# Altium schematic symbol library EwgActive.SchLib: 65 symbols
Pins are listed as number, name and electrical type; pins without a type are passive.

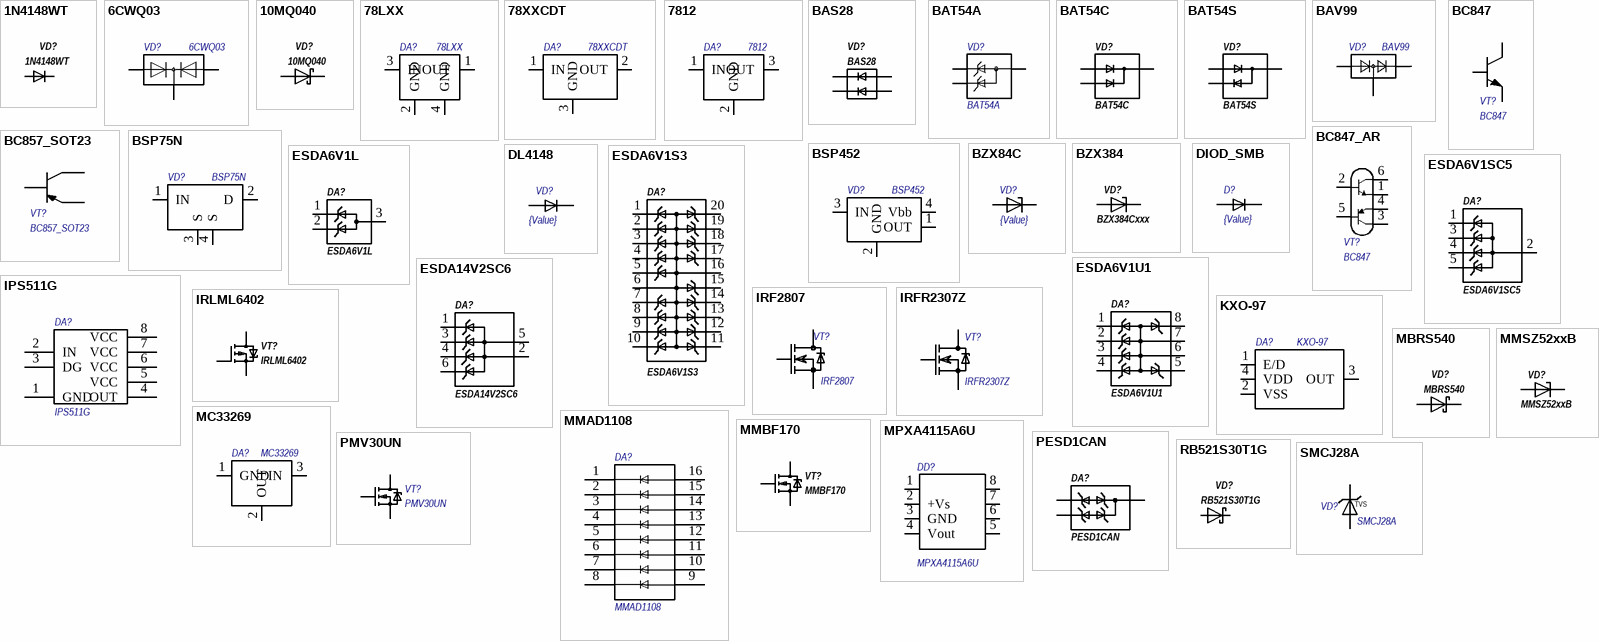
[diagram p0: symbols 1N4148WT to SMCJ28A]

## 1N4148WT
designator VD?
Диод; Производитель: Diodes Incorporated; Тип корпуса: SOD523; Тип монтажа: Поверхностный; Характеристики: 80В 250мА; Наименование: 1N4148WT; Тип компонента: Диод
footprint SOD-523F
pins: 1, 2

## 6CWQ03
designator VD?
Сборка диодная; Value: {Value}; Наименование: Vishay, VS-6CWQ03FNTR; Тип корпуса: D-PAK; Тип монтажа: Поверхностный; Номинал: {Value}; Тип компонента: Сборка диодная
footprint D-PAK
pins: 1, 2, 3

## 10MQ040
designator VD?
Диод Шоттки; Производитель: WTE; Тип корпуса: SMA; Тип монтажа: Поверхностный; Характеристики: 40В 1А; Тип компонента: Диод Шоттки; Наименование: 10MQ040
footprint SMA
pins: 1, 2

## 78LXX
designator DA?
Стабилизатор напряжения; Value: {Value}; Тип корпуса: SOT89; Тип монтажа: Поверхностный; Номинал: {Value}; Тип компонента: Стабилизатор напряжения
footprint SOT89
pins: 1 OUT, 2 GND, 3 IN, 4 GND

## 78XXCDT
designator DA?
Стабилизатор напряжения; Value: {Value}; Наименование: ST Microelectronics, 78xxCDT; Тип корпуса: D-PAK; Тип монтажа: Поверхностный; Номинал: {Value}; Тип компонента: Стабилизатор напряжения
footprint D-PAK
pins: 1 IN, 2 OUT, 3 GND

## 7812
designator DA?
Стабилизатор напряжения; Value: {Value}; Тип корпуса: D-PAK; Тип монтажа: Поверхностный; Номинал: {Value}; Тип компонента: Стабилизатор напряжения
footprint D-PAK
pins: 1 IN, 2 GND, 3 OUT

## BAS28
designator VD?
Сборка диодная Шоттки; Примечание: NXP; Тип корпуса: SOT143; Тип монтажа: Поверхностный; Характеристики: 75В, 500мА, 4нс; Наименование: BAS28; Тип компонента: Сборка диодная Шоттки
footprint SOT143
pins: 1, 2, 3, 4

## BAT54A
designator VD?
Сборка диодная Шоттки; Value: {Value}; Наименование: Fairchild Semiconductor, BAT54A; Тип корпуса: SOT-23; Тип монтажа: Поверхностный; Номинал: {Value}; Тип компонента: Сборка диодная Шоттки
footprint SOT23-3
pins: 1, 2, 3

## BAT54C
designator VD?
Сборка диодная Шоттки; Value: {Value}; Наименование: Fairchild Semiconductor, BAT54C; Тип корпуса: SOT-23; Тип монтажа: Поверхностный; Номинал: {Value}; Тип компонента: Сборка диодная Шоттки
footprint SOT23-3
pins: 1, 2, 3

## BAT54S
designator VD?
Сборка диодная Шоттки; Производитель: Fairchild Semiconductor; Тип корпуса: SOT-23; Тип монтажа: Поверхностный; Характеристики: 30В 200мА; Тип компонента: Сборка диодная Шоттки; Наименование: BAT54S
footprint SOT23-3
pins: 1, 2, 3

## BAV99
designator VD?
Сборка диодная; Value: {Value}; Наименование: FAIRCHILD, BAV99; Тип корпуса: SOT-23; Тип монтажа: Поверхностный; Номинал: {Value}; Тип компонента: Сборка диодная
footprint SOT23-3
pins: 1, 2, 3

## BC847
designator VT?
Транзитор биполярный; Value: {Value}; Наименование: NXP, BC847A; Тип корпуса: SOT-23; Тип монтажа: Поверхностный; Номинал: {Value}; Тип компонента: Транзитор биполярный
footprint SOT23-3
pins: 1, 2, 3

## BC847_AR
designator VT?, comment BC847
Сборка транзиторная; Value: {Value}; Наименование: ON Semiconductor, BC847BDW1T1G; Тип корпуса: SOT363; Тип монтажа: Поверхностный; Номинал: {Value}; Тип компонента: Сборка транзиторная
footprint SOT363
pins: 1, 2, 3, 4, 5, 6

## BC857_SOT23
designator VT?
Транзитор биполярный; Value: {Value}; Наименование: NXP, BC857A; Тип корпуса: SOT-23; Тип монтажа: Поверхностный; Номинал: {Value}; Тип компонента: Транзитор биполярный
footprint SOT23-3
pins: 1, 2, 3

## BSP75N
designator VD?
Электронный ключ (нижний); Value: {Value}; Наименование: Infineon Technologies, BSP75N; Тип корпуса: SOT223; Тип монтажа: Поверхностный; Номинал: {Value}; Тип компонента: Электронный ключ (нижний)
footprint SOT223
pins: 1 IN, 2 D, 3 S, 4 S

## BSP452
designator VD?
Электронный ключ (верхний); Value: {Value}; Наименование: Infineon Technologies, BSP452; Тип корпуса: SOT223; Тип монтажа: Поверхностный; Номинал: {Value}; Тип компонента: Электронный ключ (верхний)
footprint SOT223
pins: 1 OUT, 2 GND, 3 IN, 4 Vbb

## BZX84C
designator VD?  value {Value}  (hidden comment: *)
Стабилитрон; Наименование: BZX84Cxxx; Тип корпуса: SOT-23; Тип монтажа: Поверхностный; Номинал: {Value}; Тип компонента: Стабилитрон
footprint SOT23-3
pins: 1, 3

## BZX384
designator VD?, comment BZX384Cxxx
Стабилитрон; Производитель: Vishay; Тип корпуса: SOD323; Тип монтажа: Поверхностный; Характеристики: 2.4-75В 5мА; Тип компонента: Стабилитрон; Наименование: BZX384Cxxx
footprint SOD123
footprint SOD323
pins: 1, 2

## DIOD_SMB
designator D?  value {Value}  (hidden comment: *)
Диод; Тип корпуса: SMB; Тип монтажа: Поверхностный; Номинал: {Value}; Тип компонента: Диод
footprint SMB
pins: 1, 2

## DL4148
designator VD?  value {Value}  (hidden comment: *)
Диод; Наименование: DL4148; Тип корпуса: DO-35; Тип монтажа: Поверхностный; Номинал: {Value}; Тип компонента: Диод
footprint DIODE
pins: 1, 2

## ESDA6V1L
designator DA?
ESD-защита 2 кан.; Производитель: ST Microelectronics; Тип корпуса: SOT23; Тип монтажа: Поверхностный; Характеристики: 6.1В; Наименование: ESDA6V1L; Тип компонента: ESD-защита 2 кан.
footprint SOT23-3
pins: 1, 2, 3

## ESDA6V1S3
designator DA?
ESD-защита 18 кан.; Производитель: ST Microelectronics; Тип корпуса: SOIC20; Тип монтажа: Поверхностный; Характеристики: 6.1В; Наименование: ESDA6V1S3; Тип компонента: ESD-защита 18 кан.
footprint SO20-7.5
pins: 1, 2, 3, 4, 5, 6, 7, 8, 9, 10, 11, 12, 13, 14, 15, 16, 17, 18, 19, 20

## ESDA6V1SC5
designator DA?
ESD-защита 4 кан.; Производитель: ST Microelectronics; Тип корпуса: SOT23-5; Тип монтажа: Поверхностный; Характеристики: 6.1В; Наименование: ESDA6V1SC5; Тип компонента: ESD-защита 4 кан.
footprint SOT23-5
pins: 1, 2, 3, 4, 5

## ESDA6V1U1
designator DA?
ESD-защита 6 кан.; Производитель: ST Microelectronics; Тип корпуса: SO8; Тип монтажа: Поверхностный; Характеристики: 6.1В; Наименование: ESDA6V1U1; Тип компонента: ESD-защита 6 кан.
footprint SO8
pins: 1, 2, 3, 4, 5, 6, 7, 8

## ESDA14V2SC6
designator DA?
ESD-защита 4 кан.; Производитель: ST Microelectronics; Тип корпуса: SOT23-6; Тип монтажа: Поверхностный; Характеристики: 14.2В; Наименование: ESDA14V2SC6; Тип компонента: ESD-защита 4 кан.
footprint SOT23-6
pins: 1, 2, 3, 4, 5, 6

## IPS511G
designator DA?
Электронный ключ (верхний); Value: {Value}; Наименование: International Rectifier, IPS511G; Тип корпуса: SO8; Тип монтажа: Поверхностный; Номинал: {Value}; Тип компонента: Электронный ключ (верхний)
footprint SO8
pins: 1 GND, 2 IN, 3 DG, 4 OUT, 5 VCC, 6 VCC, 7 VCC, 8 VCC

## IRF2807
designator VT?
Транзистор полевой (MOSFET); Value: {Value}; Наименование: International Rectifier, IRF2807S; Тип корпуса: D2PAK; Тип монтажа: Поверхностный; Номинал: {Value}; Тип компонента: Транзистор полевой (MOSFET)
footprint D2PAK
pins: 1 0, 2 1, 3 2

## IRFR2307Z
designator VT?
Транзистор полевой (MOSFET); Value: {Value}; Наименование: International Rectifier, IRFR2307Z; Тип корпуса: D-PAK; Тип монтажа: Поверхностный; Номинал: {Value}; Тип компонента: Транзистор полевой (MOSFET)
footprint D-PAK
pins: 1, 2, 3

## IRLML6402
designator VT?
Транзистор полевой (MOSFET); Производитель: International Rectifier; Тип корпуса: SOT-23; Тип монтажа: Поверхностный; Характеристики: -20В -3.7А; Наименование: IRLML6402; Тип компонента: Транзистор полевой (MOSFET)
footprint SOT23-3
pins: 1 G, 2 S, 3 D

## KXO-97
designator DA?
Кварцевый генератор; Value: {Value}; Наименование: GEYER, KXO-97-; Тип монтажа: Поверхностный; Номинал: {Value}; Тип компонента: Кварцевый генератор; Тип корпуса: KXO-97
footprint KXO-97
pins: 1 E/D, 2 VSS, 3 OUT, 4 VDD

## MBRS540
designator VD?
Диод Шоттки; Производитель: ON Semiconductor; Тип корпуса: SMC; Тип монтажа: Поверхностный; Характеристики: 40В 5А; Наименование: MBRS540; Тип компонента: Диод Шоттки
footprint SMC
pins: 1, 2

## MC33269
designator DA?
Стабилизатор напряжения; Value: {Value}; Наименование: ON Semiconductor, MC33269DT-XXG; Тип корпуса: D-PAK; Тип монтажа: Поверхностный; Номинал: {Value}; Тип компонента: Стабилизатор напряжения
footprint D-PAK
pins: 1 GND, 2 OUT, 3 IN

## MMAD1108
designator DA?
Сборка диодная; Value: {Value}; Наименование: Protek Devices, MMAD1108; Тип корпуса: SO16; Тип монтажа: Поверхностный; Номинал: {Value}; Тип компонента: Сборка диодная
footprint SO16
pins: 1, 2, 3, 4, 5, 6, 7, 8, 9, 10, 11, 12, 13, 14, 15, 16

## MMBF170
designator VT?
Транзистор полевой (MOSFET); Производитель: Fairchild Semiconductor; Тип корпуса: SOT-23; Тип монтажа: Поверхностный; Характеристики: 60В 500мА 300мВт; Наименование: MMBF170; Тип компонента: Транзистор полевой (MOSFET)
footprint SOT23-3
pins: 1 0, 2 1, 3 2

## MMSZ52xxB
designator VD?
Стабилитрон; Тип корпуса: SOD123; Тип монтажа: Поверхностный; Характеристики: 2.4-37В 20мА; Тип компонента: Стабилитрон; Наименование: MMSZ52xxB
footprint SOD123
pins: 1, 2

## MPXA4115A6U
designator DD?
Датчик давления; Value: {Value}; Наименование: ON Semiconductor, MPXA4115A6U; Тип корпуса: CASE482; Тип монтажа: Поверхностный; Номинал: {Value}; Тип компонента: Датчик давления
footprint CASE482
pins: 1 NC, 2 +Vs, 3 GND, 4 Vout, 5 NC, 6 NC, 7 NC, 8 NC

## PESD1CAN
designator DA?
ESD-CAN защита; Производитель: Philips Semiconductors; Тип корпуса: SOT23; Тип монтажа: Поверхностный; Наименование: PESD1CAN; Тип компонента: ESD-CAN защита
footprint SOT23-3
pins: 1 K1, 2 K2, 3 K3

## PMV30UN
designator VT?
Транзистор полевой (MOSFET); Value: {Value}; Наименование: NXP, PMV30UN; Тип корпуса: SOT-23; Тип монтажа: Поверхностный; Номинал: {Value}; Тип компонента: Транзистор полевой (MOSFET)
footprint SOT23-3
pins: 1 0, 2 1, 3 2

## RB521S30T1G
designator VD?
Диод Шоттки; Производитель: ON Semiconductor; Тип корпуса: SOD523; Тип монтажа: Поверхностный; Характеристики: 30В 200мА 500мВ; Наименование: RB521S30T1G; Тип компонента: Диод Шоттки
footprint SOD-523F
pins: 1, 2

## SMCJ28A
designator VD?
Трансил; Наименование: Diotec Semiconductor, 1.5SMCJ28A; Напряжение: 28V; Примечание: Unidirection; Разброс номинала: 27V-30V; Тип корпуса: SMC; Тип монтажа: Поверхностный; Номинал: 28V; Тип компонента: Трансил; Value: SMCJ28A
footprint SMC (DO-214AB)
pins: 1, 2
text: TVS

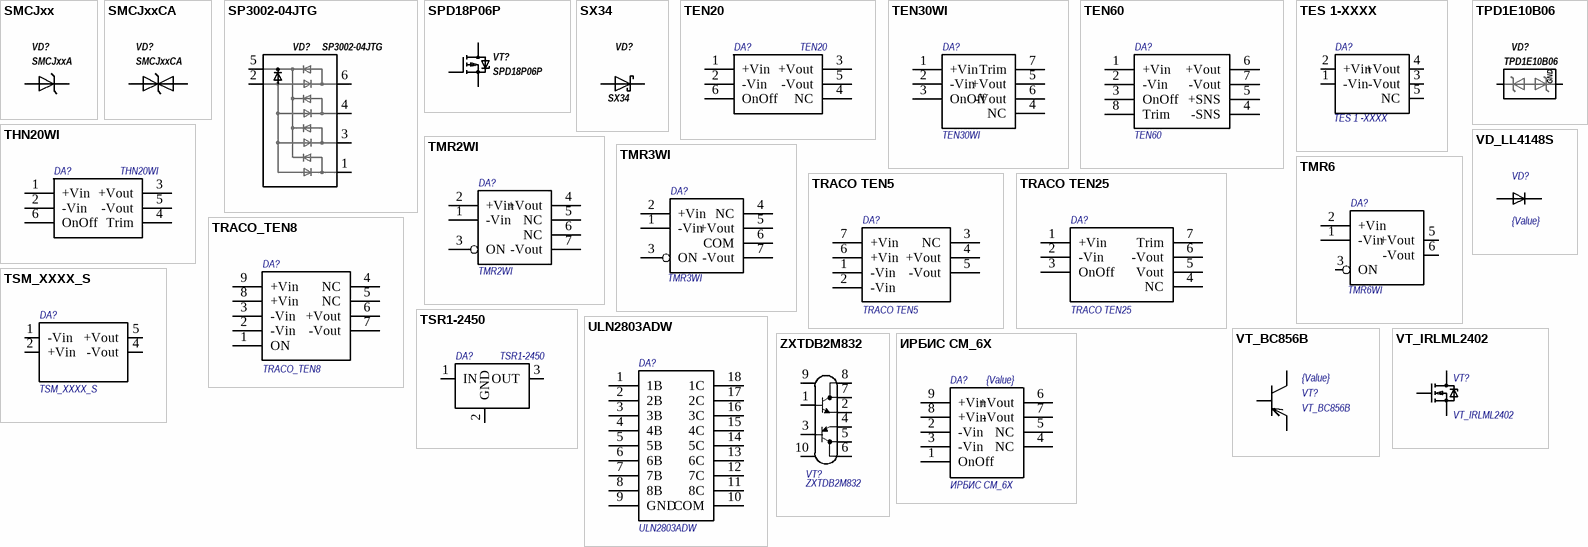
[diagram p1: symbols SMCJxx to ИРБИС СМ_6Х]

## SMCJxx
designator VD?, comment SMCJxxA
Диод TVS; Тип корпуса: SMC; Тип монтажа: Поверхностный; Характеристики: 1500 Вт; Тип компонента: Диод TVS; Наименование: SMCJxxA
footprint SMC
pins: 1, 2

## SMCJxxCA
designator VD?
Диод TVS двунаправленный; Тип корпуса: SMC; Тип монтажа: Поверхностный; Характеристики: 1500 Вт; Тип компонента: Диод TVS двунаправленный; Наименование: SMCJxxCA
footprint SMC
pins: 1, 2

## SP3002-04JTG
designator VD?
Сборка диодная Шоттки 8 шт. + ESD; Производитель: Fairchild Semiconductor; Тип корпуса: SOT323-6; Тип монтажа: Поверхностный; Характеристики: 6В 12кВ 0.85пФ; Тип компонента: Сборка диодная Шоттки 8 шт. + ESD; Наименование: SP3002-04JTG
footprint SOT323-6
pins: 1, 2, 3, 4, 5, 6

## SPD18P06P
designator VT?
Транзистор полевой (MOSFET); Производитель: International Rectifier; Тип корпуса: TO-252; Тип монтажа: Поверхностный; Характеристики: -60В -18.6А; Наименование: SPD18P06P; Тип компонента: Транзистор полевой (MOSFET)
footprint D-PAK
footprint D-PAK_P
pins: 1 G, 2 S, 3 D

## SX34
designator VD?
Диод Шоттки; Производитель: WTE; Тип корпуса: SMA; Тип монтажа: Поверхностный; Характеристики: 28В 3А; Тип компонента: Диод Шоттки; Наименование: SX34
footprint SMA
pins: 1, 2

## TEN20
designator DA?
DC-DC преобразователь; Наименование: Traco Power; Тип монтажа: Штыревой; Тип компонента: DC-DC преобразователь; Value: TEN20
footprint TEN20
pins: 1 +Vin, 2 -Vin, 3 +Vout, 4 NC, 5 -Vout, 6 OnOff

## TEN30WI
designator DA?
DC-DC преобразователь; Наименование: Traco Power; Тип монтажа: Штыревой; Тип компонента: DC-DC преобразователь; Value: TEN30WI
footprint TEN30WI
pins: 1 +Vin, 2 -Vin, 3 OnOff, 4 NC, 5 +Vout, 6 -Vout, 7 Trim

## TEN60
designator DA?
DC-DC преобразователь; Наименование: Traco Power; Тип монтажа: Штыревой; Тип компонента: DC-DC преобразователь; Value: TEN60
footprint TEN60
pins: 1 +Vin, 2 -Vin, 3 OnOff, 4 -SNS, 5 +SNS, 6 +Vout, 7 -Vout, 8 Trim

## TES 1-XXXX
designator DA?, comment TES 1 -XXXX
DC-DC преобразователь; Наименование: Traco Power; Тип монтажа: Поверхностный; Value: {Value}; Тип компонента: DC-DC преобразователь
footprint TES 1-XXXX
pins: 1 -Vin, 2 +Vin, 3 -Vout, 4 +Vout, 5 NC

## THN20WI
designator DA?
DC-DC преобразователь; Наименование: Traco Power; Тип монтажа: Штыревой; Тип компонента: DC-DC преобразователь; Value: THN20WI
footprint THN20WI
pins: 1 +Vin, 2 -Vin, 3 +Vout, 4 Trim, 5 -Vout, 6 OnOff

## TMR2WI
designator DA?
DC-DC преобразователь; Наименование: Traco Power; Номинал: 2W; Тип монтажа: Штыревой; Тип компонента: DC-DC преобразователь; Value: TMR2WI
footprint TMR2
pins: 1 -Vin, 2 +Vin, 3 ON, 4 +Vout, 5 NC, 6 NC, 7 -Vout

## TMR3WI
designator DA?
DC-DC преобразователь; Наименование: Traco Power; Тип монтажа: Штыревой; Тип компонента: DC-DC преобразователь; Value: TMR3WI
footprint TMR3
pins: 1 -Vin, 2 +Vin, 3 ON, 4 NC, 5 +Vout, 6 COM, 7 -Vout

## TMR6
designator DA?, comment TMR6WI
DC-DC преобразователь; Наименование: Traco Power; Тип монтажа: Штыревой; Тип компонента: DC-DC преобразователь; Value: TMR6WI
footprint TMR3
pins: 1 -Vin, 2 +Vin, 3 ON, 4 NC hidden, 5 +Vout, 6 -Vout, 7 NC hidden

## TPD1E10B06
designator VD?
ESD-защита; Производитель: Texas Instruments; Тип корпуса: 0402; Тип монтажа: Поверхностный; Характеристики: 30кВ 6В; Наименование: TPD1E10B06; Тип компонента: ESD-защита
footprint X1SON
pins: 1, 2
text: GND

## TRACO TEN5
designator DA?
DC-DC преобразователь; Value: {Value}; Наименование: Traco Power; Тип монтажа: Штыревой; Номинал: {Value}; Тип компонента: DC-DC преобразователь
footprint TEN5
pins: 1 -Vin, 2 -Vin, 3 NC, 4 +Vout, 5 -Vout, 6 +Vin, 7 +Vin

## TRACO TEN25
designator DA?
DC-DC преобразователь; Value: {Value}; Наименование: Traco Power; Тип монтажа: Штыревой; Номинал: {Value}; Тип компонента: DC-DC преобразователь
footprint TEN25
pins: 1 +Vin, 2 -Vin, 3 OnOff, 4 NC, 5 Vout, 6 -Vout, 7 Trim

## TRACO_TEN8
designator DA?
DC-DC преобразователь; Value: {Value}; Наименование: Traco Power; Тип монтажа: Штыревой; Номинал: {Value}; Тип компонента: DC-DC преобразователь
footprint TEN8
pins: 1 ON, 2 -Vin, 3 -Vin, 4 NC, 5 NC, 6 +Vout, 7 -Vout, 8 +Vin, 9 +Vin

## TSM_XXXX_S
designator DA?
DC-DC преобразователь; Наименование: Traco Power; Тип монтажа: Поверхностный; Номинал: TSM_XXXX_S; Тип компонента: DC-DC преобразователь; Value: TSM_XXXX_S
footprint TSM0505S
pins: 1 -Vin, 2 +Vin, 3 NC hidden, 4 -Vout, 5 +Vout, 6 NC hidden, 7 NC hidden, 8 NC hidden

## TSR1-2450
designator DA?
DC-DC преобразователь; Value: {Value}; Наименование: TRACO POWER, TSR1; Тип корпуса: TO-220; Номинал: {Value}; Тип компонента: DC-DC преобразователь
footprint TSR1-24XX (SIP3)
pins: 1 IN, 2 GND, 3 OUT

## ULN2803ADW
designator DA?
Сборка транзисторная; Value: {Value}; Наименование: Texas Instruments, ULN2803ADWR; Тип корпуса: R-PDSO-G18; Тип монтажа: Поверхностный; Номинал: {Value}; Тип компонента: Сборка транзисторная
footprint R-PDSO-G18
pins: 1 1B, 2 2B, 3 3B, 4 4B, 5 5B, 6 6B, 7 7B, 8 8B, 9 GND, 10 COM, 11 8C, 12 7C, 13 6C, 14 5C, 15 4C, 16 3C, 17 2C, 18 1C

## VD_LL4148S
designator VD?  value {Value}  (hidden comment: *)
Диод; Наименование: Fairchild Semiconductor, LL4148; Тип корпуса: SOD-80; Тип монтажа: Поверхностный; Тип компонента: Диод
footprint SOD-80
pins: 1, 2

## VT_BC856B
designator VT?  value {Value}
Транзитор биполярный; Наименование: NXP, BC856B; Тип корпуса: SOT-23; Тип монтажа: Поверхностный; Тип компонента: Транзитор биполярный
footprint SOT23-3
pins: 1, 2, 3

## VT_IRLML2402
designator VT?
Транзистор полевой (MOSFET); Value: {Value}; Наименование: International Rectifier, IRLML2402TR; Тип корпуса: SOT-23; Тип монтажа: Поверхностный; Номинал: {Value}; Тип компонента: Транзистор полевой (MOSFET)
footprint SOT23-3
pins: 1 0, 2 1, 3 2

## ZXTDB2M832
designator VT?
Сборка транзиторная; Value: {Value}; Наименование: Zetex, ZXTDB2M832TA; Тип корпуса: MLP832; Тип монтажа: Поверхностный; Номинал: {Value}; Тип компонента: Сборка транзиторная
footprint MLP832
pins: 1, 2, 3, 4, 5, 6, 7, 8, 9, 10

## ИРБИС СМ_6Х
designator DA?  value {Value}
DC-DC преобразователь; Наименование: Ирбис, СМх6х; Тип монтажа: Штыревой; Тип компонента: DC-DC преобразователь
footprint ИРБИС СМ_6Х
pins: 1 OnOff, 2 -Vin, 3 -Vin, 4 NC, 5 NC, 6 +Vout, 7 -Vout, 8 +Vin, 9 +Vin